# Altium schematic symbol library TimerSMD_Components.SchLib: 48 symbols
Pins are listed as number, name and electrical type; pins without a type are passive.

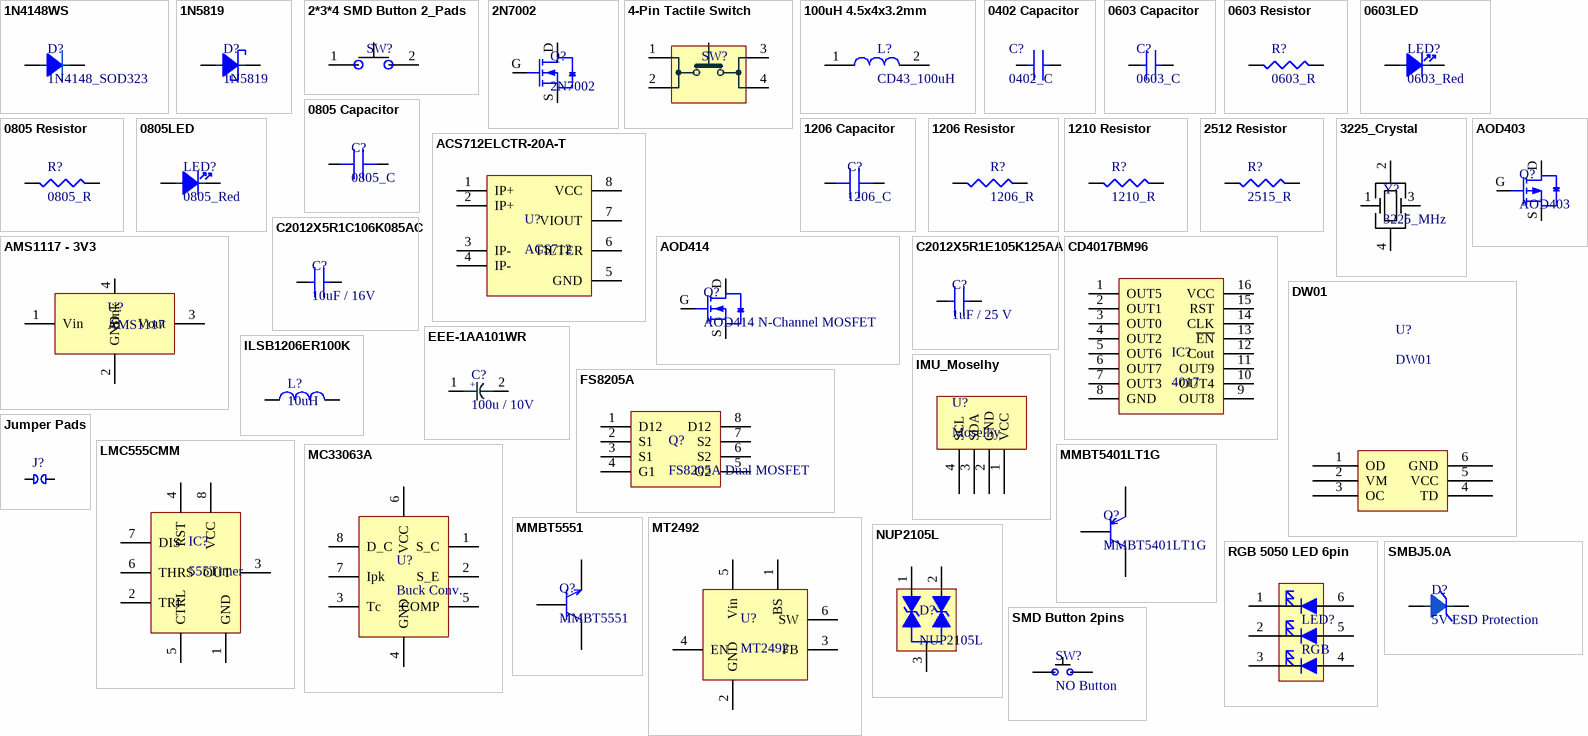
[diagram p0: symbols 1N4148WS to SMD Button 2pins]

## 1N4148WS
designator D?, comment 1N4148_SOD323
DIODE GEN PURP 100V 300MA SOD123; Reverse Recovery Time: 4ns; Forward Voltage: 1.25V; Element Configuration: Single; Forward Current: 150mA; Peak Non-Repetitive Surge Current: 2A; Max Reverse Current: 1uA; Power Dissipation: 400mW; Polarity: Standard; Capacitance: 2pF; Voltage Rating (DC): 75V; Supplier 1: Digi-Key; Stock 1: 0; Pricing 1: 1=0.18000, 10=0.16800, 100=0.09120, 500=0.05614, 1000=0.03828 (USD); RoHS: Yes; Mount: Surface Mount; Number of Pins: 2; Weight: 0.000353oz; Contact Plating: Tin,Matte; Min Operating Temperature: -65°C; Max Operating Temperature: 150°C; Packaging: Tape and Reel; Max Repetitive Reverse Voltage (Vrrm): 100V; Average Rectified Current: 300mA; Max Reverse Voltage (DC): 100V; Package Quantity: 3000; Recovery Time: 4ns; Max Forward Surge Current (Ifsm): 2A; Current Rating: 150mA; Max Surge Current: 2A; Output Current: 150mA; Series: -; Voltage: 100V; Reverse Recovery Time-Max: 4ns; Power Rating: 400mW; Length: 2.85mm; Width: 1.7mm; Height: 1.25mm; Radiation Hardening: No; Lead Free: Lead Free; RoHS Compliant: Yes; REACH SVHC: No SVHC; ComponentLink1URL: https://datasheet.ciiva.com/911/ds30086-911734.pdf?src-supplier=Digi-Key; ComponentLink1Description: https://datasheet.ciiva.com/911/ds30086-911734.pdf?src-supplier=Digi-Key; ComponentLink2URL: https://datasheet.ciiva.com/911/ds30086-911735.pdf?src-supplier=Digi-Key; ComponentLink2Description: https://datasheet.ciiva.com/911/ds30086-911735.pdf?src-supplier=Digi-Key; ComponentLink3URL: https://datasheet.ciiva.com/22695/1915529-22695239.pdf?src-supplier=Element14; ComponentLink3Description: https://datasheet.ciiva.com/22695/1915529-22695239.pdf?src-supplier=Element14; ComponentLink4URL: https://datasheet.ciiva.com/911/ds30086-911736.pdf?src-supplier=Digi-Key; ComponentLink4Description: https://datasheet.ciiva.com/911/ds30086-911736.pdf?src-supplier=Digi-Key; ComponentLink5URL: https://datasheet.ciiva.com/1179/1915529-1179304.pdf?src-supplier=Element14; ComponentLink5Description: https://datasheet.ciiva.com/1179/1915529-1179304.pdf?src-supplier=Element14; ComponentLink6URL: https://datasheet.ciiva.com/4435/ds30086-4435128.pdf?src-supplier=Mouser; ComponentLink6Description: https://datasheet.ciiva.com/4435/ds30086-4435128.pdf?src-supplier=Mouser; ComponentLink7URL: https://datasheet.ciiva.com/8300/ds30086-8300392.pdf?src-supplier=Avnet; ComponentLink7Description: https://datasheet.ciiva.com/8300/ds30086-8300392.pdf?src-supplier=Avnet; ComponentLink8URL: https://datasheet.ciiva.com/25919/ds30086-25919609.pdf?src-supplier=Avnet+Europe; ComponentLink8Description: https://datasheet.ciiva.com/25919/ds30086-25919609.pdf?src-supplier=Avnet+Europe; ComponentLink9URL: https://datasheet.ciiva.com/15219/getdatasheetpartid-110030-15219548.pdf?src-supplier=Verical; ComponentLink9Description: https://datasheet.ciiva.com/15219/getdatasheetpartid-110030-15219548.pdf?src-supplier=Verical; ComponentLink10URL: https://datasheet.ciiva.com/8303/ds30086-8303197.pdf?src-supplier=Avnet; ComponentLink10Description: https://datasheet.ciiva.com/8303/ds30086-8303197.pdf?src-supplier=Avnet
footprint SOD-323
pins: A Anode, K Cathode

## 1N5819
designator D?
1N5819 SS14 SMA Schottky Barrier Diodes (SBD) 40V 550mV@1A 1A
footprint D0-214AC
pins: A Anode, K Cathode

## 2*3*4 SMD Button 2_Pads
designator SW?  (value not drawn)
footprint 2padSMD- 2*3*4
pins: 1, 2

## 2N7002
designator Q?
2N7002 7002 N Channel MOSFET SMD 60V 115mA 225mW 7.5Ω@10V,500mA SOT-23
footprint SO-23 - MOSFET
pins: D, G, S

## 4-Pin Tactile Switch
designator SW?, comment 1825910-6  (value not drawn)
SWITCH TACTILE SPST-NO 0.05A 24V; Manufacturer 1: TE Connectivity Alcoswitch; Actuator Material: PBT; Mechanical Life: 100000Cycles; Operating Force: 160gf; Throw Configuration: SPST; Illumination Type: Non-Illuminated,Illuminated; Parameter Name 1: Loose Piece; Switch Travel: 0.25mm; Switch Function: Off-Mom; Contact Current Rating: 50mA; Actuator Type: Standard; Contact Resistance: 100mR; Actuator Length: 0.055inch; Supplier 1: Digi-Key; Manufacturer Part Number 1: 1825910-6; Stock 1: 115702; Pricing 1: 1=0.10000, 10=0.10100, 25=0.09560, 100=0.08700, 250=0.08180, 500=0.07484, 1000=0.06265, 5000=0.05743, 10000=0.05395 (USD); RoHS: Yes; Mount: Through Hole; Contact Material: Copper Alloy; Contact Plating: Silver; Min Operating Temperature: -35°C; Max Operating Temperature: 85°C; Termination: PC Pins; Package Quantity: 750; Orientation: Straight; Max Voltage Rating (DC): 24V; Electrical Life: 100000Cycles; Max Current Rating: 50mA; Type: Switch; Length: 5.99mm; REACH SVHC: Unknown; ELV: Compliant; Lead Free: Lead Free; ComponentLink1URL: https://datasheet.ciiva.com/30199/1825910-6rqpn1825910-6-30199520.pdf?src-supplier=Onlinecomponents.com; ComponentLink1Description: https://datasheet.ciiva.com/30199/1825910-6rqpn1825910-6-30199520.pdf?src-supplier=Onlinecomponents.com; ComponentLink2URL: https://datasheet.ciiva.com/15184/getdatasheetpartid-395915-15184509.pdf?src-supplier=Verical; ComponentLink2Description: https://datasheet.ciiva.com/15184/getdatasheetpartid-395915-15184509.pdf?src-supplier=Verical; Supplier Part Number 1: 450-1650-ND
footprint 4-Pin Tactile Switch
pins: 1, 2, 3, 4

## 100uH 4.5x4x3.2mm
designator L?, comment CD43_100uH
footprint CD43
pins: 1, 2

## 0402 Capacitor
designator C?, comment 0402_C
footprint 0402
pins: 1, 2

## 0603 Capacitor
designator C?, comment 0603_C
footprint 0603_CAP
pins: 1, 2

## 0603 Resistor
designator R?, comment 0603_R
footprint 0603_CAP
pins: 1, 2

## 0603LED
designator LED?, comment 0603_Red
footprint 0603_LED
pins: 1 Anode, 2 Cathode

## 0805 Capacitor
designator C?, comment 0805_C
0805 Capacitor
footprint C0805 - 0.1uf
pins: 1, 2

## 0805 Resistor
designator R?, comment 0805_R
footprint R0805
pins: 1, 2

## 0805LED
designator LED?, comment 0805_Red
footprint 0805_LED
pins: 1 Anode, 2 Cathode

## 1206 Capacitor
designator C?, comment 1206_C
1206 Capacitor
footprint 1206
pins: 1, 2

## 1206 Resistor
designator R?, comment 1206_R
footprint 1206
pins: 1, 2

## 1210 Resistor
designator R?, comment 1210_R
footprint 1210_R
pins: 1, 2

## 2512 Resistor
designator R?, comment 2515_R
footprint R2512
pins: 1, 2

## 3225_Crystal
designator Y?, comment 3225_MHz
footprint 3225_Crystal
pins: 1, 2, 3, 4

## ACS712ELCTR-20A-T
designator U?, comment ACS712
Allegro ACS712ELCTR-20A-T / Sensor Current 20A 5V Bi 8-SOICALLE; Manufacturer: Allegro MicroSystems; Sensing Method: 6244SensingMethod; Operating Supply Current: 10mA; Supplier 1: Arrow Electronics; Manufacturer Part Number: ACS712ELCTR-20A-T; RoHS: Yes; Category: Current Sensors; Stock 1: 410; Pricing 1: 1=2.194, 10=1.776, 25=1.759, 50=1.749, 100=1.721, 500=1.555, 1000=1.483, 3000=1.435 (USD); Lead Free: 5697LeadFree; ComponentLink1URL: https://datasheet.ciiva.com/15099/getdatasheetpartid-312820-15099471.pdf?src-supplier=Verical; ComponentLink1Description: https://datasheet.ciiva.com/15099/getdatasheetpartid-312820-15099471.pdf?src-supplier=Verical; ComponentLink2URL: https://datasheet.ciiva.com/1165/64754-1165093.pdf?src-supplier=Element14; ComponentLink2Description: https://datasheet.ciiva.com/1165/64754-1165093.pdf?src-supplier=Element14; ComponentLink3URL: https://datasheet.ciiva.com/3271/acs712-datasheet-3271995.pdf?src-supplier=Avnet; ComponentLink3Description: https://datasheet.ciiva.com/3271/acs712-datasheet-3271995.pdf?src-supplier=Avnet; ComponentLink4URL: https://datasheet.ciiva.com/3272/acs712-datasheet-3272423.pdf?src-supplier=Avnet; ComponentLink4Description: https://datasheet.ciiva.com/3272/acs712-datasheet-3272423.pdf?src-supplier=Avnet; ComponentLink5URL: https://datasheet.ciiva.com/16636/acs712-datasheet-16636599.pdf?; ComponentLink5Description: https://datasheet.ciiva.com/16636/acs712-datasheet-16636599.pdf?; Supplier Part Number 1: ACS712ELCTR-20A-T
footprint SOP8 - duplicate
pins: 1 IP+, 2 IP+, 3 IP-, 4 IP-, 5 GND, 6 FILTER, 7 VIOUT, 8 VCC

## AMS1117 - 3V3
designator U?, comment AMS1117
AMS1117-3.3 Checked Fixed Positive LDO Regulator, 3.3V, 1.3V Dropout, PDSO3 Voltage Regulators - Linear
footprint SOT-223
pins: 1 Vin, 2 GND, 3 Vout, 4 Sink

## AOD403
designator Q?
MOSFET Transistor P-Channel 30V 15A 3.5V @ 250uA 6mΩ @ 20A,20V 2.5W TO-252-2(DPAK)
footprint DPAK
pins: D, G, S

## AOD414
designator Q?, comment AOD414 N-Channel MOSFET
N-Channel Enhancement Mode Field Effect Transistor
footprint DPAK
pins: D, G, S

## C2012X5R1C106K085AC
designator C?, comment 10uF / 16V
TDK - C2012X5R1C106K085AC - SMD Multilayer Ceramic Capacitor, 10 µF, 16 V, 0805 [2012 Metric], ± 10%, X5R, C Series TDK; Parameter Name: Tape and Reel; Supplier 1: Digi-Key; Manufacturer 1: TDK; Manufacturer Part Number 1: C2012X5R1C106K085AC; Stock 1: 1313952; Pricing 1: 1=0.24000, 10=0.16700, 50=0.11140, 100=0.09460, 500=0.06680, 1000=0.05844 (USD); RoHS: Yes; Mount: Surface Mount; Case/Package: 0805; Number of Pins: 2; Weight: 0.000194oz; Case Code (Metric): 2012; Case Code (Imperial): 0805; Dielectric Material: Ceramic; Min Operating Temperature: -55°C; Max Operating Temperature: 85°C; Capacitance: 10uF; Voltage Rating: 16V; Tolerance: 10%; Voltage Rating (DC): 16V; Termination: SMD/SMT; Dielectric: X5R; Package Quantity: 1; Resistor Type: Ceramic; Length: 2mm; Height: 0.85mm; Depth: 1.25mm; Width: 0.049inch; Thickness: 0.037inch; Lead Free: Lead Free; REACH SVHC: No SVHC; ComponentLink1URL: https://datasheet.ciiva.com/24218/c2012x5r1c106k085ac-264980-24218056.pdf?src-supplier=Mouser; ComponentLink1Description: https://datasheet.ciiva.com/24218/c2012x5r1c106k085ac-264980-24218056.pdf?src-supplier=Mouser; ComponentLink2URL: https://datasheet.ciiva.com/28451/1796654-28451610.pdf?src-supplier=Element14; ComponentLink2Description: https://datasheet.ciiva.com/28451/1796654-28451610.pdf?src-supplier=Element14; ComponentLink3URL: https://datasheet.ciiva.com/28602/1744655-28602170.pdf?src-supplier=Element14; ComponentLink3Description: https://datasheet.ciiva.com/28602/1744655-28602170.pdf?src-supplier=Element14; ComponentLink4URL: https://datasheet.ciiva.com/6259/tdkmlcccaprange-6259116.pdf?src-supplier=Digi-Key; ComponentLink4Description: https://datasheet.ciiva.com/6259/tdkmlcccaprange-6259116.pdf?src-supplier=Digi-Key; ComponentLink5URL: https://datasheet.ciiva.com/23803/1796654-23803020.pdf?src-supplier=Newark; ComponentLink5Description: https://datasheet.ciiva.com/23803/1796654-23803020.pdf?src-supplier=Newark; ComponentLink6URL: https://datasheet.ciiva.com/22719/1796654-22719549.pdf?src-supplier=Element14; ComponentLink6Description: https://datasheet.ciiva.com/22719/1796654-22719549.pdf?src-supplier=Element14; ComponentLink7URL: https://datasheet.ciiva.com/6259/tdkmlcccaprange-6259119.pdf?src-supplier=Digi-Key; ComponentLink7Description: https://datasheet.ciiva.com/6259/tdkmlcccaprange-6259119.pdf?src-supplier=Digi-Key; ComponentLink8URL: https://datasheet.ciiva.com/28673/mlcc-commercial-general-en-28673535.pdf?src-supplier=Element14; ComponentLink8Description: https://datasheet.ciiva.com/28673/mlcc-commercial-general-en-28673535.pdf?src-supplier=Element14; Supplier Part Number 1: 445-7644-1-ND
footprint C0805 - 10uf
pins: 1, 2

## C2012X5R1E105K125AA
designator C?, comment 1uF / 25 V
TDK - C2012X5R1E105K125AA - SMD Multilayer Ceramic Capacitor, 1 µF, 25 V, 0805 [2012 Metric], ± 10%, X5R, C Series; Voltage Rating: 25V; Parameter Name 1: Tape and Reel; Supplier 1: Digi-Key; Manufacturer 1: TDK; Manufacturer Part Number 1: C2012X5R1E105K125AA; Stock 1: 16168; Pricing 1: 1=0.23000, 10=0.15800, 50=0.09500, 100=0.08030, 500=0.05492, 1000=0.04858 (USD); RoHS: Yes; Mount: Surface Mount; Case/Package: 0805; Number of Pins: 2; Weight: 0.000194oz; Case Code (Metric): 2012; Case Code (Imperial): 0805; Dielectric Material: Ceramic; Min Operating Temperature: -55°C; Max Operating Temperature: 85°C; Capacitance: 1uF; Voltage Rating (DC): 25V; Termination: SMD/SMT; Dielectric: X5R; Tolerance: 10%; Package Quantity: 2000; Resistor Type: Ceramic; Voltage: 25V; Length: 2mm; Height: 1.25mm; Depth: 1.25mm; Width: 0.049inch; Thickness: 0.057inch; Radiation Hardening: No; Lead Free: Lead Free; REACH SVHC: No SVHC; ComponentLink1URL: https://datasheet.ciiva.com/11787/0900766b80c1bb00-11787608.pdf?src-supplier=RSComponents; ComponentLink1Description: https://datasheet.ciiva.com/11787/0900766b80c1bb00-11787608.pdf?src-supplier=RSComponents; ComponentLink2URL: https://datasheet.ciiva.com/16449/e412-c-16449595.pdf?src-supplier=Future+Electronics; ComponentLink2Description: https://datasheet.ciiva.com/16449/e412-c-16449595.pdf?src-supplier=Future+Electronics; ComponentLink3URL: https://datasheet.ciiva.com/28602/1744655-28602171.pdf?src-supplier=Element14; ComponentLink3Description: https://datasheet.ciiva.com/28602/1744655-28602171.pdf?src-supplier=Element14; ComponentLink4URL: https://datasheet.ciiva.com/15192/getdatasheetpartid-726707-15192140.pdf?src-supplier=Verical; ComponentLink4Description: https://datasheet.ciiva.com/15192/getdatasheetpartid-726707-15192140.pdf?src-supplier=Verical; Supplier Part Number 1: 445-1419-1-ND
footprint C0805 - 0.1uf
pins: 1, 2

## CD4017BM96
designator IC?, comment 4017
TEXAS INSTRUMENTS         CD4017BM96             DECADE COUNTER/DIVIDER, CMOS, SOIC16; Number of Elements: 1; Min Supply Voltage: 3V; Max Supply Voltage: 18V; Frequency: 11MHz; Number of Bits: 10; Clock Edge Trigger Type: Positive Edge; Quiescent Current: 100uA; Propagation Delay: 650ns; Direction: Up,Unidirectional; Reset: Asynchronous; Sync/Async: Synchronous; Supplier 1: Digi-Key; Stock 1: 2391; Pricing 1: 1=0.58000, 10=0.50100, 25=0.46760, 100=0.37400, 250=0.34724, 500=0.29384, 1000=0.22705 (USD); RoHS: Yes; Mount: Surface Mount; Case/Package: SOIC; Number of Pins: 16; Weight: 0.004998oz; Contact Plating: Gold; Min Operating Temperature: -55°C; Max Operating Temperature: 125°C; Packaging: Tape and Reel; Package Quantity: 2500; Number of Bits per Element: 10; Logic Function: Counter; Turn-On Delay Time: 650ns; Radiation Hardening: No; Lead Free: Lead Free; RoHS Compliant: Yes; REACH SVHC: No SVHC; ComponentLink1URL: https://datasheet.ciiva.com/15093/getdatasheetpartid-249707-15093626.pdf?src-supplier=Verical; ComponentLink1Description: https://datasheet.ciiva.com/15093/getdatasheetpartid-249707-15093626.pdf?src-supplier=Verical; ComponentLink2URL: https://datasheet.ciiva.com/1848/cd4017b-1848277.pdf?src-supplier=Digi-Key; ComponentLink2Description: https://datasheet.ciiva.com/1848/cd4017b-1848277.pdf?src-supplier=Digi-Key; ComponentLink3URL: https://datasheet.ciiva.com/1848/cd4017b-1848276.pdf?src-supplier=Digi-Key; ComponentLink3Description: https://datasheet.ciiva.com/1848/cd4017b-1848276.pdf?src-supplier=Digi-Key; ComponentLink4URL: https://datasheet.ciiva.com/1848/cd4017b-1848278.pdf?src-supplier=Digi-Key; ComponentLink4Description: https://datasheet.ciiva.com/1848/cd4017b-1848278.pdf?src-supplier=Digi-Key; ComponentLink5URL: https://datasheet.ciiva.com/14295/cd4022b-mil-14295180.pdf?src-supplier=Avnet; ComponentLink5Description: https://datasheet.ciiva.com/14295/cd4022b-mil-14295180.pdf?src-supplier=Avnet; ComponentLink6URL: https://datasheet.ciiva.com/26208/cd4022b-mil-26208893.pdf?src-supplier=Avnet+Europe; ComponentLink6Description: https://datasheet.ciiva.com/26208/cd4022b-mil-26208893.pdf?src-supplier=Avnet+Europe; ComponentLink7URL: https://datasheet.ciiva.com/14295/cd4022b-mil-14295178.pdf?src-supplier=Avnet; ComponentLink7Description: https://datasheet.ciiva.com/14295/cd4022b-mil-14295178.pdf?src-supplier=Avnet; Supplier Part Number 1: 296-25940-1-ND; Manufacturer 1: Texas Instruments; Manufacturer Part Number 1: CD4017BM96
footprint SOP16
pins: 1 OUT5, 2 OUT1, 3 OUT0, 4 OUT2, 5 OUT6, 6 OUT7, 7 OUT3, 8 GND (power), 9 OUT8, 10 OUT4, 11 OUT9, 12 Cout, 13 ~{EN}, 14 CLK, 15 RST, 16 VCC

## DW01
designator U?
DW01A SOT-23-6 Battery Management SMD IC
footprint SOT23-6
pins: 1 OD, 2 VM, 3 OC, 4 TD, 5 VCC, 6 GND

## EEE-1AA101WR
designator C?, comment 100u / 10V
Cap Aluminum 100uF 10V 20% (5 X 5.4mm) SMD 50mA 1000 hr 85°C T/R; Manufacturer 1: Panasonic; Manufacturer Part Number 1: EEE-1AA101WR; Parameter Name 1: Tape and Reel; Life (Hours): 1000Hour; Supplier 1: Digi-Key; Stock 1: 0; Pricing 1: 1=0.34000, 10=0.23100, 50=0.15400, 100=0.13090, 500=0.09240 (USD); RoHS: Yes; Mount: Surface Mount,PCB; Case/Package: Radial; Contact Plating: Tin; Min Operating Temperature: -40°C; Max Operating Temperature: 85°C; Capacitance: 100uF; Voltage Rating: 10V; Tolerance: 20%; Ripple Current: 50mA; Package Quantity: 1; Ripple Current (AC): 50mA; Voltage Rating (DC): 10V; Termination: SMD/SMT; Diameter: 5mm; Length: 5.5mm; Height: 5.4mm; Height - Seated (Max): 0.213inch; Radiation Hardening: No; REACH SVHC: Unknown; Lead Free: Lead Free; ComponentLink1URL: https://datasheet.ciiva.com/26945/getdatasheetpartid-169213-26945071.pdf?src-supplier=Verical; ComponentLink1Description: https://datasheet.ciiva.com/26945/getdatasheetpartid-169213-26945071.pdf?src-supplier=Verical; ComponentLink2URL: https://datasheet.ciiva.com/2983/aba0000ce2-2983906.pdf?src-supplier=Avnet; ComponentLink2Description: https://datasheet.ciiva.com/2983/aba0000ce2-2983906.pdf?src-supplier=Avnet; ComponentLink3URL: https://datasheet.ciiva.com/30075/11aba0000ce2-30075303.pdf?src-supplier=Onlinecomponents.com; ComponentLink3Description: https://datasheet.ciiva.com/30075/11aba0000ce2-30075303.pdf?src-supplier=Onlinecomponents.com; ComponentLink4URL: https://datasheet.ciiva.com/16427/aba0000ce2-16427544.pdf?src-supplier=Future+Electronics; ComponentLink4Description: https://datasheet.ciiva.com/16427/aba0000ce2-16427544.pdf?src-supplier=Future+Electronics; ComponentLink5URL: https://datasheet.ciiva.com/14598/70255710-14598233.pdf?src-supplier=Allied+Electronics; ComponentLink5Description: https://datasheet.ciiva.com/14598/70255710-14598233.pdf?src-supplier=Allied+Electronics; ComponentLink6URL: https://datasheet.ciiva.com/14605/70255710-14605689.pdf?src-supplier=Allied+Electronics; ComponentLink6Description: https://datasheet.ciiva.com/14605/70255710-14605689.pdf?src-supplier=Allied+Electronics; ComponentLink7URL: https://datasheet.ciiva.com/11673/aba0000ce2-11673882.pdf?src-supplier=Avnet; ComponentLink7Description: https://datasheet.ciiva.com/11673/aba0000ce2-11673882.pdf?src-supplier=Avnet; ComponentLink8URL: https://datasheet.ciiva.com/24027/aba0000ce2-40801-24027541.pdf?src-supplier=Mouser; ComponentLink8Description: https://datasheet.ciiva.com/24027/aba0000ce2-40801-24027541.pdf?src-supplier=Mouser; Supplier Part Number 1: PCE3867CT-ND
footprint C_ALUM_D_SIZE
pins: 1, 2
text: +

## FS8205A
designator Q?, comment FS8205A Dual MOSFET
20V 6A 25mΩ@4.5V,4A 1W 2 N-Channel TSSOP-8 MOSFET SMD
footprint TSSOP8
pins: 1 D12, 2 S1, 3 S1, 4 G1, 5 G2, 6 S2, 7 S2, 8 D12

## ILSB1206ER100K
designator L?, comment 10uH
Inductor RF Chip Shielded Multi-Layer 10uH 10% 2MHz 45Q-Factor 0.025A 1Ohm DCR 1206 T/R; Manufacturer 1: Vishay Dale; Manufacturer Part Number 1: ILSB1206ER100K; Core Material: Ferrite; Current Rating: 25mA; Self Resonant Frequency: 28MHz; Q Factor: 45; DC Resistance (DCR): 1R; Supplier 1: Mouser; Stock 1: 11113; Pricing 1: 1=0.23, 10=0.204, 50=0.204, 100=0.137, 1000=0.096, 10000=0.072 (USD); RoHS: Yes; Mount: Surface Mount; Case/Package: 1206; Case Code (Metric): 3216; Case Code (Imperial): 1206; Min Operating Temperature: -55°C; Max Operating Temperature: 125°C; Package Quantity: 3000; Tolerance: 10%; Shielding: Shielded; Packaging: Tape and Reel; Inductance Tolerance: 10%; Inductance: 10uH; Test Frequency: 2MHz; Max DC Current: 25mA; Termination: SMD/SMT; DC Current: 25mA; Series: ILSB-1206; Rated Current-Max: 25mA; Length: 0.126inch; Width: 0.063inch; Height: 0.02inch; Height - Seated (Max): 0.055inch; Depth: 1.8mm; Radiation Hardening: No; Military Standard: Not; Lead Free: Lead Free; RoHS Compliant: Yes; Reach SVHC Compliant: Unknown; ComponentLink1URL: https://datasheet.ciiva.com/1067/ilsb1206-1067856.pdf?src-supplier=Digi-Key; ComponentLink1Description: https://datasheet.ciiva.com/1067/ilsb1206-1067856.pdf?src-supplier=Digi-Key; ComponentLink2URL: https://datasheet.ciiva.com/7243/1537078-7243341.pdf?src-supplier=Newark; ComponentLink2Description: https://datasheet.ciiva.com/7243/1537078-7243341.pdf?src-supplier=Newark; ComponentLink3URL: https://datasheet.ciiva.com/3867/ilsb1206-3867119.pdf?src-supplier=Arrow+Electronics; ComponentLink3Description: https://datasheet.ciiva.com/3867/ilsb1206-3867119.pdf?src-supplier=Arrow+Electronics; Supplier Part Number 1: 70-ILSB1206ER100K
footprint 1206
pins: 1, 2

## IMU_Moselhy
designator U?, comment Moselhy
pins: 1 VCC, 2 GND, 3 SDA, 4 SCL

## Jumper Pads
designator J?  (value not drawn)
footprint JMP
pins: 1, 2

## LMC555CMM
designator IC?, comment 555Timer
TEXAS INSTRUMENTS   LMC555CMM; Manufacturer 1: TI National Semiconductor; Min Supply Voltage: 1.5V; Max Supply Voltage: 15V; Max Power Dissipation: 555mW; Number of Timers/Counters: 1; High Level Output Current: -10mA; Low Level Output Current: 50mA; Frequency: 3MHz; Quiescent Current: 50uA; Operating Supply Current: 150uA; Propagation Delay: 100ns; Supplier 1: Mouser; Manufacturer Part Number 1: LMC555CMM; Stock 1: 5; Pricing 1: 1=2.11000, 10=1.90000, 50=1.79000, 100=1.53000, 1000=1.12000, 10000=1.12000 (USD); RoHS: No; Mount: Surface Mount; Case/Package: MSOP; Number of Pins: 8; Contact Plating: Tin,Lead; Min Operating Temperature: -40°C; Max Operating Temperature: 125°C; Package Quantity: 1; Packaging: Tape and Reel; Power Dissipation: 555mW; Series: LMC555; Nominal Supply Current: 50uA; Number of Channels: 1; Turn-On Delay Time: 100ns; Supply Current: 50uA; Radiation Hardening: No; Lead Free: Contains Lead; RoHS Compliant: No; REACH SVHC: No SVHC; ComponentLink1URL: https://datasheet.ciiva.com/1141/7434-1141783.pdf?src-supplier=Farnell; ComponentLink1Description: https://datasheet.ciiva.com/1141/7434-1141783.pdf?src-supplier=Farnell; ComponentLink2URL: https://datasheet.ciiva.com/6666/lmc555-6666981.pdf?src-supplier=Digi-Key; ComponentLink2Description: https://datasheet.ciiva.com/6666/lmc555-6666981.pdf?src-supplier=Digi-Key; ComponentLink3URL: https://datasheet.ciiva.com/14274/lmc555-14274421.pdf?src-supplier=Avnet; ComponentLink3Description: https://datasheet.ciiva.com/14274/lmc555-14274421.pdf?src-supplier=Avnet; ComponentLink4URL: https://datasheet.ciiva.com/1139/1896118-1139437.pdf?src-supplier=Element14; ComponentLink4Description: https://datasheet.ciiva.com/1139/1896118-1139437.pdf?src-supplier=Element14; ComponentLink5URL: https://datasheet.ciiva.com/22697/1896118-22697389.pdf?src-supplier=Element14; ComponentLink5Description: https://datasheet.ciiva.com/22697/1896118-22697389.pdf?src-supplier=Element14
footprint SOP8
pins: 1 GND, 2 TRI, 3 OUT, 4 RST, 5 CTRL, 6 THRS, 7 DIS, 8 VCC

## MC33063A
designator U?, comment Buck Conv.
footprint SOP8
pins: 1 S_C, 2 S_E, 3 Tc, 4 GND, 5 COMP, 6 VCC, 7 Ipk, 8 D_C

## MMBT5401LT1G
designator Q?
Transistor, Bipolar, Si, PNP, High Voltage, VCEO -150VDC, IC -500mA, PD 225mW, SOT-23; Manufacturer: ON Semiconductor; Max Power Dissipation: 300mW; Max Collector Current: 500mA; Transition Frequency: 300MHz; Collector Emitter Breakdown Voltage: -150V; Emitter Base Voltage (VEBO): 5V; Collector Base Voltage (VCBO): 160V; Collector Emitter Saturation Voltage: -500mV; Collector-emitter Voltage-Max: 500mV; hFE Min: 50; Collector Emitter Voltage (VCEO): 150V; Number of Elements: 1; Supplier 1: Rs; Manufacturer Part Number: MMBT5401LT1G; RoHS: Yes; Category: BJTs; Stock 1: 940; Pricing 1: 10=0.044, 100=0.041, 200=0.035, 500=0.033, 1000=0.031 (GBP); Case/Package: SOT-23-3; Number of Pins: 3; Min Operating Temperature: -55°C; Max Operating Temperature: 150°C; Packaging: Tape and Reel; Polarity: PNP; Series: -; Voltage Rating (DC): -150V; Current Rating: -500mA; Package Quantity: 3000; Gain Bandwidth Product: 300MHz; Frequency: 300MHz; Max Breakdown Voltage: 150V; Power Dissipation: 300mW; Max Frequency: 300MHz; Length: 2.9mm; Width: 1.3mm; Height: 0.94mm; Radiation Hardening: No; RoHS Compliant: Yes; Lead Free: 5697LeadFree; Reach SVHC Compliant: No; Supplier Part Number 1: 5450393
footprint SO-23
pins: 1 B, 2 E, 3 C

## MMBT5551
designator Q?
MMBT5551 G1 160V 300mW 200@10mA,5V 600mA NPN SOT-23 Bipolar Transistors – BJT SMD
footprint SO-23
pins: 1 B, 2 E, 3 C

## MT2492
designator U?
2A Buck Converter
footprint SOT23-6
pins: 1 BS, 2 GND, 3 FB, 4 EN, 5 Vin, 6 SW

## NUP2105L
designator D?
ESD Protection Dual Diode for CAN Bus Line Protection
footprint SO-23
pins: 1 IN1, 2 IN2, 3 IN3

## RGB 5050 LED 6pin
designator LED?, comment RGB
footprint 5050 RGB
pins: 1, 2, 3, 4, 5, 6

## SMBJ5.0A
designator D?, comment 5V ESD Protection
footprint D0-214AA
pins: A Anode, K Cathode

## SMD Button 2pins
designator SW?, comment NO Button
footprint 2pinSMD
pins: 1, 2

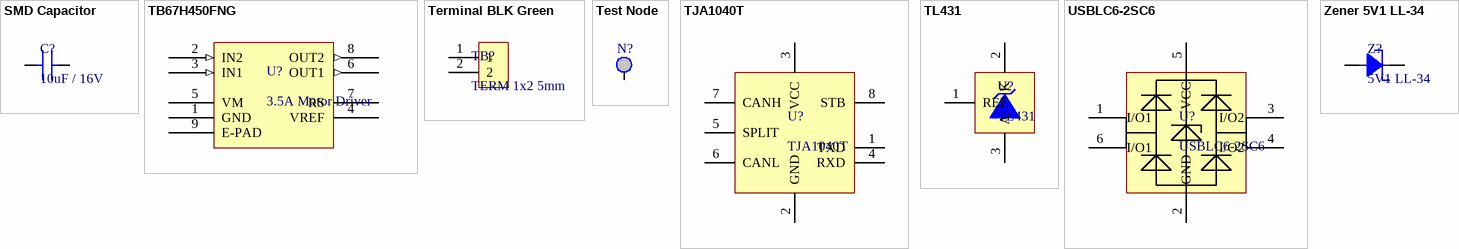
[diagram p1: symbols SMD Capacitor to Zener 5V1 LL-34]

## SMD Capacitor
designator C?, comment 10uF / 16V
TDK - C2012X5R1C106K085AC - SMD Multilayer Ceramic Capacitor, 10 µF, 16 V, 0805 [2012 Metric], ± 10%, X5R, C Series TDK; Parameter Name: Tape and Reel; Supplier 1: Digi-Key; Manufacturer 1: TDK; Manufacturer Part Number 1: C2012X5R1C106K085AC; Stock 1: 1313952; Pricing 1: 1=0.24000, 10=0.16700, 50=0.11140, 100=0.09460, 500=0.06680, 1000=0.05844 (USD); RoHS: Yes; Mount: Surface Mount; Case/Package: 0805; Number of Pins: 2; Weight: 0.000194oz; Case Code (Metric): 2012; Case Code (Imperial): 0805; Dielectric Material: Ceramic; Min Operating Temperature: -55°C; Max Operating Temperature: 85°C; Capacitance: 10uF; Voltage Rating: 16V; Tolerance: 10%; Voltage Rating (DC): 16V; Termination: SMD/SMT; Dielectric: X5R; Package Quantity: 1; Resistor Type: Ceramic; Length: 2mm; Height: 0.85mm; Depth: 1.25mm; Width: 0.049inch; Thickness: 0.037inch; Lead Free: Lead Free; REACH SVHC: No SVHC; ComponentLink1URL: https://datasheet.ciiva.com/24218/c2012x5r1c106k085ac-264980-24218056.pdf?src-supplier=Mouser; ComponentLink1Description: https://datasheet.ciiva.com/24218/c2012x5r1c106k085ac-264980-24218056.pdf?src-supplier=Mouser; ComponentLink2URL: https://datasheet.ciiva.com/28451/1796654-28451610.pdf?src-supplier=Element14; ComponentLink2Description: https://datasheet.ciiva.com/28451/1796654-28451610.pdf?src-supplier=Element14; ComponentLink3URL: https://datasheet.ciiva.com/28602/1744655-28602170.pdf?src-supplier=Element14; ComponentLink3Description: https://datasheet.ciiva.com/28602/1744655-28602170.pdf?src-supplier=Element14; ComponentLink4URL: https://datasheet.ciiva.com/6259/tdkmlcccaprange-6259116.pdf?src-supplier=Digi-Key; ComponentLink4Description: https://datasheet.ciiva.com/6259/tdkmlcccaprange-6259116.pdf?src-supplier=Digi-Key; ComponentLink5URL: https://datasheet.ciiva.com/23803/1796654-23803020.pdf?src-supplier=Newark; ComponentLink5Description: https://datasheet.ciiva.com/23803/1796654-23803020.pdf?src-supplier=Newark; ComponentLink6URL: https://datasheet.ciiva.com/22719/1796654-22719549.pdf?src-supplier=Element14; ComponentLink6Description: https://datasheet.ciiva.com/22719/1796654-22719549.pdf?src-supplier=Element14; ComponentLink7URL: https://datasheet.ciiva.com/6259/tdkmlcccaprange-6259119.pdf?src-supplier=Digi-Key; ComponentLink7Description: https://datasheet.ciiva.com/6259/tdkmlcccaprange-6259119.pdf?src-supplier=Digi-Key; ComponentLink8URL: https://datasheet.ciiva.com/28673/mlcc-commercial-general-en-28673535.pdf?src-supplier=Element14; ComponentLink8Description: https://datasheet.ciiva.com/28673/mlcc-commercial-general-en-28673535.pdf?src-supplier=Element14; Supplier Part Number 1: 445-7644-1-ND
footprint C0805 - 10uf
pins: 1, 2

## TB67H450FNG
designator U?, comment 3.5A Motor Driver
footprint HSOP8
pins: 1 GND (power), 2 IN2 (in), 3 IN1 (in), 4 VREF, 5 VM (power), 6 OUT1 (out), 7 RS, 8 OUT2 (out), 9 E-PAD (power)

## Terminal BLK Green
designator TB?, comment TERM 1x2 5mm
PHOENIX CONTACT         MKDSN 1,5/ 2             Wire-To-Board Terminal Block, 5 mm, 2 Ways, 26 AWG, 16 AWG, 1.5 mm, Screw; Manufacturer Part Number 1: 1729018; Parameter Name 1: Bulk; Number of Positions: 2; Current Rating: 13.5A; Number of Levels: 1; Current: 10A; Gender: Male; Voltage Rating: 400V; Voltage: 300V; Max Supply Voltage: 250V; Wire Gauge (Max): 26AWG; Stripping Length: 6mm; Approvals: UL,CSA,cULus,CB; Supplier 1: Mouser; Manufacturer 1: Phoenix Contact; Stock 1: 6371; Pricing 1: 1=1.10000, 10=1.05000, 50=1.01000, 100=0.97400, 250=0.91000, 500=0.83800 (USD); RoHS: Yes; Mount: Through Hole; Number of Pins: 2; Weight: 0.06949oz; Color: Green; Material: Polyamide; Housing Material: Polyamide; Housing Color: Green; Contact Material: Tin; Insulation Material: Nylon; Package Quantity: 50; Termination: Screw; Number of Positions Per Level: 2; Number of Contacts: 2; Number of Circuits: 2; Connector Type: Screw; Orientation: Straight; Number of Rows: 1; Max Current Rating: 13.5A; Number of Poles: 2; Length: 8.1mm; Height: 13.5mm; Pitch: 5mm; Wire Gauge (Min): 26AWG; Depth: 8.1mm; Width: 13.5mm; Wire/Cable Gauge: 26AWG; Radiation Hardening: No; REACH SVHC: Unknown; Flammability Rating: UL94 V-0; Lead Free: Lead Free; ComponentLink1URL: https://datasheet.ciiva.com/16071/1729018-16071814.pdf?src-supplier=Onlinecomponents.com; ComponentLink1Description: https://datasheet.ciiva.com/16071/1729018-16071814.pdf?src-supplier=Onlinecomponents.com; ComponentLink2URL: https://datasheet.ciiva.com/832/1729018-832055.pdf?src-supplier=Digi-Key; ComponentLink2Description: https://datasheet.ciiva.com/832/1729018-832055.pdf?src-supplier=Digi-Key; ComponentLink3URL: https://datasheet.ciiva.com/15169/getdatasheetpartid-177860-15169643.pdf?src-supplier=Verical; ComponentLink3Description: https://datasheet.ciiva.com/15169/getdatasheetpartid-177860-15169643.pdf?src-supplier=Verical; ComponentLink4URL: https://datasheet.ciiva.com/14607/70054375-14607356.pdf?src-supplier=Allied+Electronics; ComponentLink4Description: https://datasheet.ciiva.com/14607/70054375-14607356.pdf?src-supplier=Allied+Electronics; ComponentLink5URL: https://datasheet.ciiva.com/33105/1729018-33105978.pdf?src-supplier=Today+Components; ComponentLink5Description: https://datasheet.ciiva.com/33105/1729018-33105978.pdf?src-supplier=Today+Components; Supplier Part Number 1: 651-1729018
footprint Terminal_5mm
pins: 1, 2

## Test Node
designator N?  (value not drawn)
footprint TEST NODE
pins: N 1

## TJA1040T
designator U?
CAN Transceiver
footprint SOP8 - duplicate
pins: 1 TXD, 2 GND, 3 VCC, 4 RXD, 5 SPLIT, 6 CANL, 7 CANH, 8 STB

## TL431
designator U?
SMD Voltage References SOT-23
footprint SO-23
pins: 1 REF, 2 K, 3 A

## USBLC6-2SC6
designator U?
ComponentLink1Description: https://www.st.com/resource/en/datasheet/usblc6-2.pdf; ComponentLink1URL: *
footprint SOT23-6
pins: 1 I/O1, 2 GND, 3 I/O2, 4 I/O2, 5 VCC, 6 I/O1

## Zener 5V1 LL-34
designator Z?, comment 5V1 LL-34
footprint LL-34
pins: A Anode, K Cathode